# EAGLE library part PCF8574AT (library me)
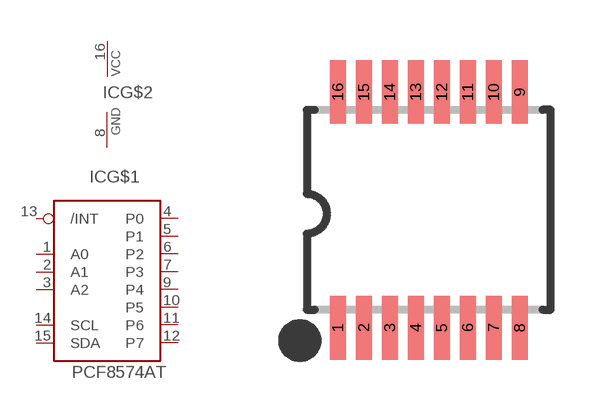
[diagram p19: symbol with the pads of TSSOP16; footprint TSSOP16]

Designator prefix IC; gates G$1=PCF8574 G$2=PWRN

## PCF8574AT  [TSSOP16]
1  G$1:A0  in
2  G$1:A1  in
3  G$1:A2  in
4  G$1:P0
5  G$1:P1
6  G$1:P2
7  G$1:P3
8  G$2:GND  pwr
9  G$1:P4
10  G$1:P5
11  G$1:P6
12  G$1:P7
13  G$1:/INT  out
14  G$1:SCL  in
15  G$1:SDA
16  G$2:VCC  pwr

## Footprint TSSOP16 (pad centres in mm)
TSOP16 thin small outline package
smd 0.4 x 1.6: 1 -2.225,-2.85; 2 -1.575,-2.85; 3 -0.925,-2.85; 4 -0.275,-2.85; 5 0.375,-2.85; 6 1.025,-2.85; 7 1.675,-2.85; 8 2.325,-2.85; 9 2.325,3.05; 10 1.675,3.05; 11 1.025,3.05; 12 0.375,3.05; 13 -0.275,3.05; 14 -0.925,3.05; 15 -1.575,3.05; 16 -2.225,3.05